# EAGLE library part STM32L011 (library chiptron_cz)
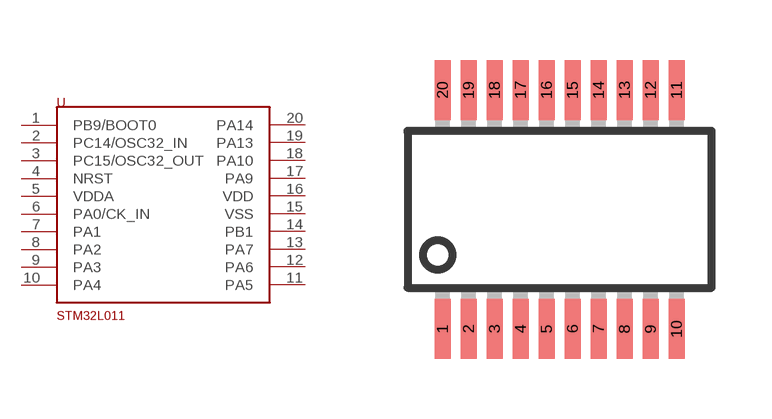
[diagram p14: symbol with the pads of SSOP20; footprint SSOP20]

Designator prefix -

## STM32L011  [SSOP20]
1  PB9/BOOT0
2  PC14/OSC32_IN
3  PC15/OSC32_OUT
4  NRST
5  VDDA  pwr
6  PA0/CK_IN
7  PA1
8  PA2
9  PA3
10  PA4
11  PA5
12  PA6
13  PA7
14  PB1
15  VSS  pwr
16  VDD  pwr
17  PA9
18  PA10
19  PA13
20  PA14

## Footprint SSOP20 (pad centres in mm)
smd 0.4 x 1.5: 1 -2.925,-3.625; 2 -2.275,-3.625; 3 -1.625,-3.625; 4 -0.975,-3.625; 5 -0.325,-3.625; 6 0.325,-3.625; 7 0.975,-3.625; 8 1.625,-3.625; 9 2.275,-3.625; 10 2.925,-3.625; 11 2.925,2.355; 12 2.275,2.355; 13 1.625,2.355; 14 0.975,2.355; 15 0.325,2.355; 16 -0.325,2.355; 17 -0.975,2.355; 18 -1.625,2.355; 19 -2.275,2.355; 20 -2.925,2.355